# EAGLE library part SDAMB-012XXX0XX (library card_adapters)
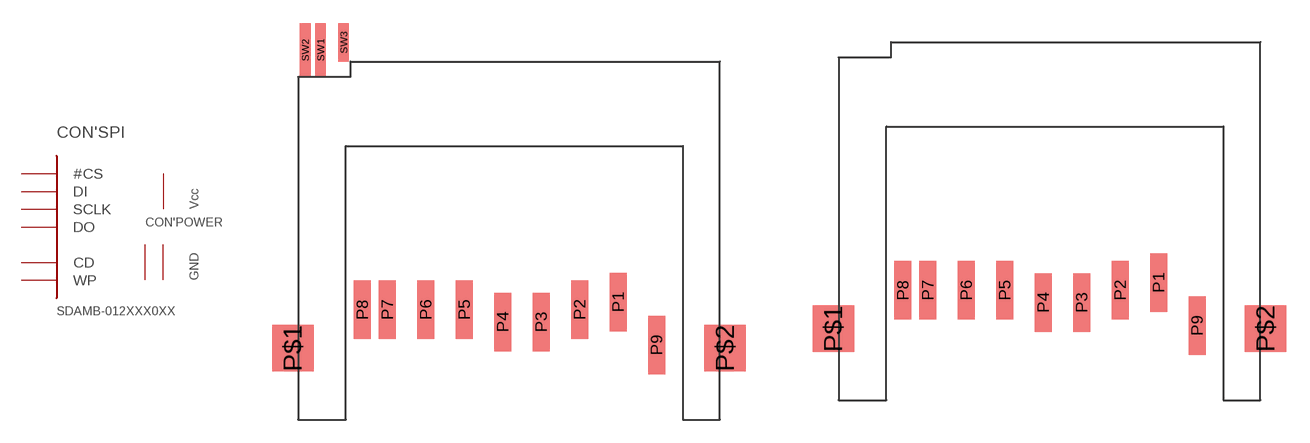
[diagram p2: symbol with the pads of SDAMB-012XXX0XX; footprints SDAMB-012XXX0XX, SDAMP-012XXX0XX_OHNE]

Designator prefix CON; gates 'POWER=SDCMF-109XXW010_VCC_GND 'SPI=SDCMF-109XXW010_SPI

## SDAMB-012XXX0XXSMD  [SDAMB-012XXX0XX]

## SDAMB-012XXX0XX  [SDAMP-012XXX0XX_OHNE]
P1  'SPI:#CS  in
P2  'SPI:DI  in
P3  'POWER:GND  pwr
P4  'POWER:VCC  pwr
P5  'SPI:SCLK  in
P6  'POWER:GND  pwr
P7  'SPI:DO  out
P8  'SPI:CD  oc
P9  'SPI:WP  oc

## Footprint SDAMB-012XXX0XX (pad centres in mm)
KingFont SD-CARD Connector Type A SDAMB-012XXX0XX
smd 1.1 x 3.8: P1 7.2,-15.66; P2 4.7,-16.16; P3 2.2,-16.96; P4 -0.3,-16.96; P5 -2.8,-16.16; P6 -5.3,-16.16; P7 -7.8,-16.16; P8 -9.425,-16.16; P9 9.7,-18.46
smd 2.7 x 3: P$1 -13.95,-18.65; P$2 14.15,-18.65
smd 0.7 x 3.5: SW1 -12.15,0.75; SW2 -13.15,0.75
smd 0.7 x 2.5: SW3 -10.65,1.25

## Footprint SDAMP-012XXX0XX_OHNE (pad centres in mm)
smd 1.1 x 3.8: P1 7.2,-15.66; P2 4.7,-16.16; P3 2.2,-16.96; P4 -0.3,-16.96; P5 -2.8,-16.16; P6 -5.3,-16.16; P7 -7.8,-16.16; P8 -9.425,-16.16; P9 9.7,-18.46
smd 2.7 x 3: P$1 -13.95,-18.65; P$2 14.15,-18.65